# Altium footprint library Integrated Circuit THD.PcbLib: 1 footprints
Each footprint in its own frame and in the unit in brackets; x right, y up, seen from the top. Pads: shape width x height; smd on the part's side, far side on the other; paste and mask are expansions set on the pad; w line width, h text height; cw(c..) or ccw(c..) is an arc to the next point about the centre after c.
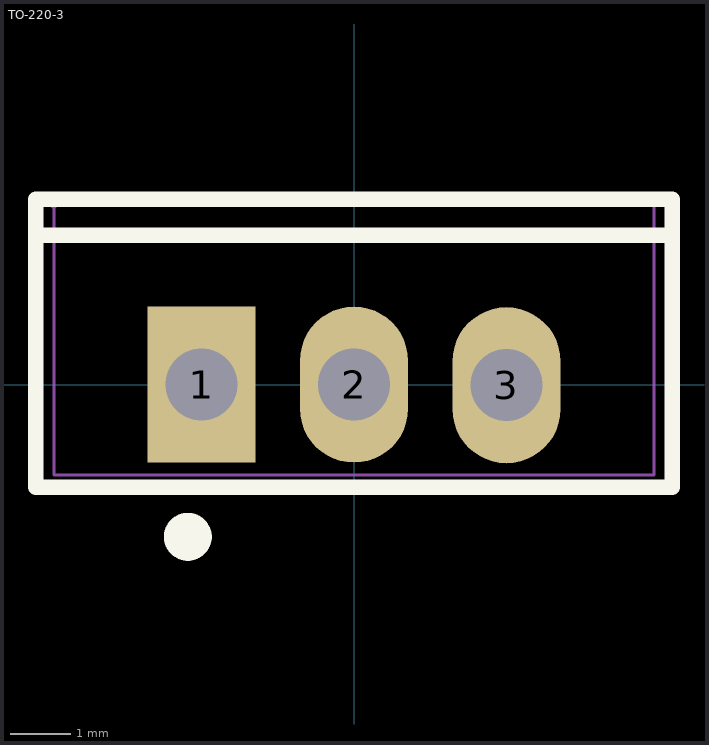
[diagram p0: the footprint, top view; thin cyan lines are the x and y axes]

## TO-220-3 [mm]
pads (3):
  rect 1.8x2.6 hole 1.2: 1(-2.54,0.005)
  oval 1.8x2.6 hole 1.2: 2(0,0.005)
  oval 1.8x2.6 hole 1.2 copper offset 0,0: 3(2.54,-0.005)
Top Overlay:
  lines w0.254: -5.3,2.495 5.3,2.495 ; -5.301,-1.704 -5.301,3.089 -5.301,3.094 5.301,3.094 5.301,-1.704 -5.301,-1.704
  lines w0.4: -2.77,-2.33 ccw(c-2.769,-2.53) -2.769,-2.73 ccw(c-2.769,-2.53) -2.767,-2.33
Mechanical 15:
  region: 2.19,-0.33 2.19,0.32 2.89,0.32 2.89,-0.33
  region: -0.35,-0.32 -0.35,0.33 0.35,0.33 0.35,-0.32
  region: -2.89,-0.32 -2.89,0.33 -2.19,0.33 -2.19,-0.32
  region: -4.94,3 -4.94,3.025 -4.975,3.06 -5.025,3.06 -5.06,3.025 -5.06,3 -5.06,2.975 -5.025,2.94 -4.975,2.94 -4.94,2.975 -4.94,3
  lines w0.051: -5,-1.5 5,-1.5 5,3 -5,3 -5,-1.5